# Altium footprint library MP1584EN.PcbLib: 1 footprints
Each footprint in its own frame and in the unit in brackets; x right, y up, seen from the top. Pads: shape width x height; smd on the part's side, far side on the other; paste and mask are expansions set on the pad; w line width, h text height; cw(c..) or ccw(c..) is an arc to the next point about the centre after c.
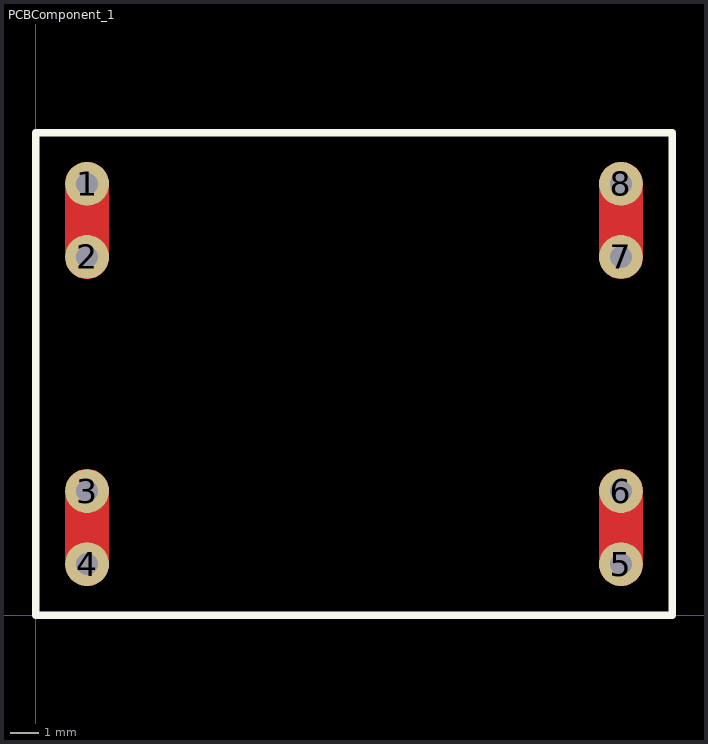
[diagram p0: the footprint, top view; thin cyan lines are the x and y axes]

## PCBComponent_1 [mil]
pads (8):
  round 60 hole 30: 1(70,590) 2(70,490) 3(70,170) 4(70,70) 5(800,70) 6(800,170) 7(800,490) 8(800,590)
Top Layer:
  lines w60: 70,70 70,170 ; 70,490 70,590 ; 800,70 800,170 ; 800,490 800,590
Top Overlay:
  lines w10: 0,0 870,0 870,660 0,660 0,0